# EAGLE library part 5102321-3 (library Tyco_By_element14_Batch_1)
WIRE-BOARD CONN, HEADER, 16POS, 2.54MM
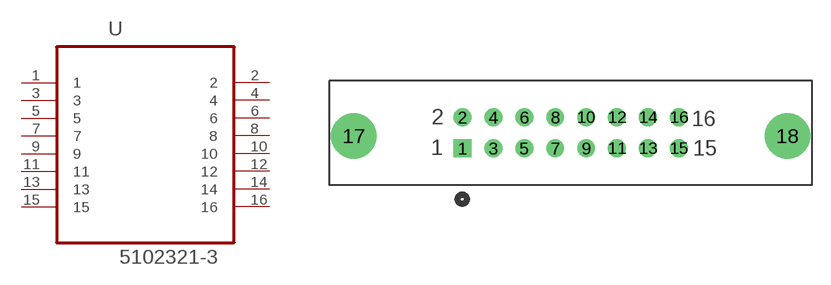
[diagram p86: symbol with the pads of TYCO_5102321-3; footprint TYCO_5102321-3]

Designator prefix U

## 5102321-3 (MPN: 5102321-3; OC_FARNELL: 1821907; OC_NEWARK: 42K6986; PACKAGE: HEADER, 16POS, 2.54MM; SUPPLIER: TycoElectronics)  [TYCO_5102321-3]
1  1  pas
2  2  pas
3  3  pas
4  4  pas
5  5  pas
6  6  pas
7  7  pas
8  8  pas
9  9  pas
10  10  pas
11  11  pas
12  12  pas
13  13  pas
14  14  pas
15  15  pas
16  16  pas

## Footprint TYCO_5102321-3 (pad centres in mm)
drill 0.965 square: 1 -17.78,-2.54
drill 0.965: 2 -17.78,0; 3 -15.24,-2.54; 4 -15.24,0; 5 -12.7,-2.54; 6 -12.7,0; 7 -10.16,-2.54; 8 -10.16,0; 9 -7.62,-2.54; 10 -7.62,0; 11 -5.08,-2.54; 12 -5.08,0; 13 -2.54,-2.54; 14 -2.54,0; 15 0,-2.54; 16 0,0
drill 2.692: 17 -26.67,-1.524; 18 8.89,-1.524